# Altium schematic symbol library con-pulse.SCHLIB: 11 symbols
Pins are listed as number, name and electrical type; pins without a type are passive.

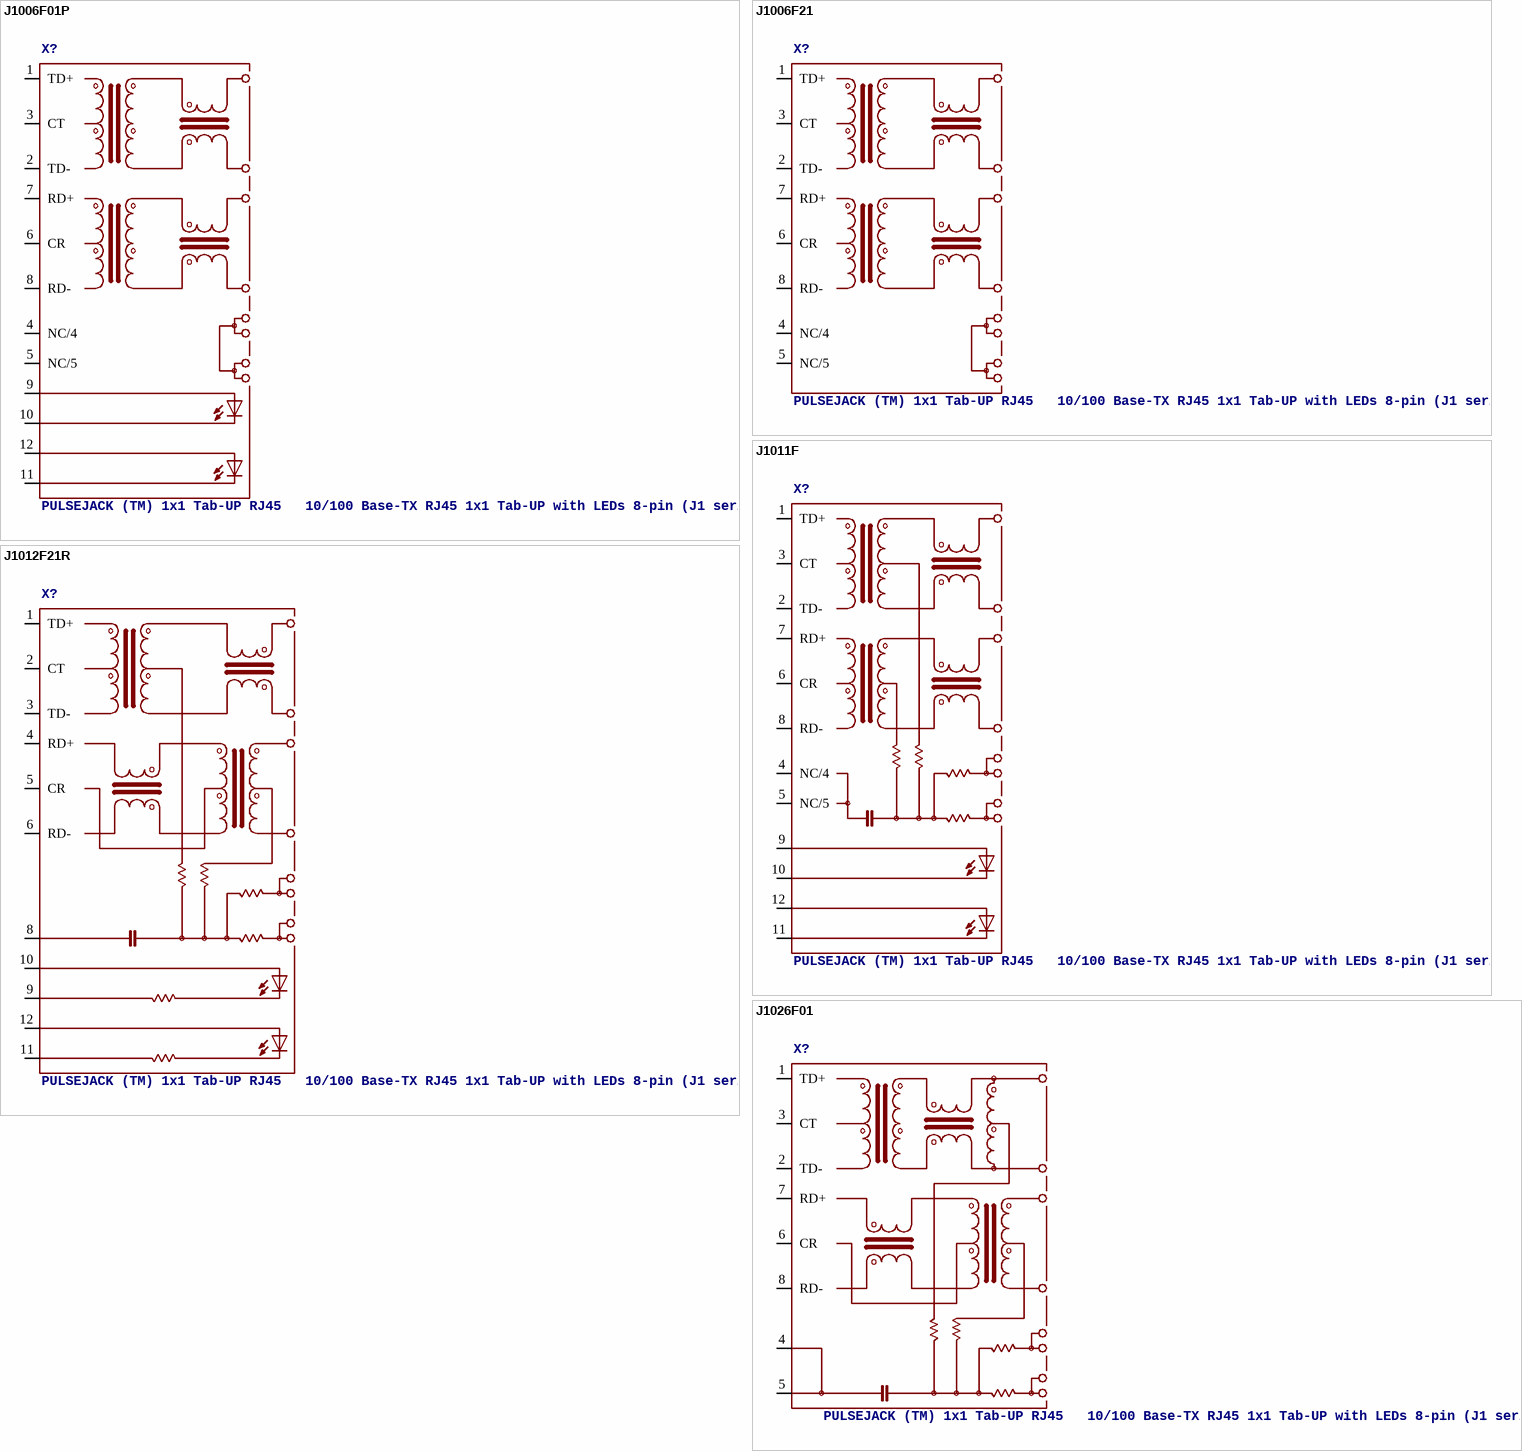
[diagram p0: symbols J1006F01P to J1026F01]

## J1006F01P
designator X?, comment PULSEJACK (TM) 1x1 Tab-UP RJ45   10/100 Base-TX RJ45 1x1 Tab-UP with LEDs 8-pin (J1 series) and 6-pin (JP series) integrated magnetics connector, designed to support applications, such as ADSL modems, LAN-on-Motherboard, and Hub and Switches. Source: www.pulseeng.com .. PulseJack-J402.pdf
OC_FARNELL: unknown; OC_NEWARK: unknown
footprint J1
pins: 1 TD+, 2 TD-, 3 CT, 4 NC/4, 5 NC/5, 6 CR, 7 RD+, 8 RD-, 9 A-R, 10 C-R, 11 C-L, 12 A-L

## J1006F21
designator X?, comment PULSEJACK (TM) 1x1 Tab-UP RJ45   10/100 Base-TX RJ45 1x1 Tab-UP with LEDs 8-pin (J1 series) and 6-pin (JP series) integrated magnetics connector, designed to support applications, such as ADSL modems, LAN-on-Motherboard, and Hub and Switches. Source: www.pulseeng.com .. PulseJack-J402.pdf
OC_FARNELL: unknown; OC_NEWARK: unknown
footprint J1
pins: 1 TD+, 2 TD-, 3 CT, 4 NC/4, 5 NC/5, 6 CR, 7 RD+, 8 RD-

## J1011F
designator X?, comment PULSEJACK (TM) 1x1 Tab-UP RJ45   10/100 Base-TX RJ45 1x1 Tab-UP with LEDs 8-pin (J1 series) and 6-pin (JP series) integrated magnetics connector, designed to support applications, such as ADSL modems, LAN-on-Motherboard, and Hub and Switches. Source: www.pulseeng.com .. PulseJack-J402.pdf
OC_FARNELL: unknown; OC_NEWARK: unknown
footprint J1
pins: 1 TD+, 2 TD-, 3 CT, 4 NC/4, 5 NC/5, 6 CR, 7 RD+, 8 RD-, 9 A-R, 10 C-R, 11 C-L, 12 AL

## J1012F21R
designator X?, comment PULSEJACK (TM) 1x1 Tab-UP RJ45   10/100 Base-TX RJ45 1x1 Tab-UP with LEDs 8-pin (J1 series) and 6-pin (JP series) integrated magnetics connector, designed to support applications, such as ADSL modems, LAN-on-Motherboard, and Hub and Switches. Source: www.pulseeng.com .. PulseJack-J402.pdf
OC_FARNELL: unknown; OC_NEWARK: unknown
footprint J1
pins: 1 TD+, 2 CT, 3 TD-, 4 RD+, 5 CR, 6 RD-, 8, 9 C-R, 10 A-R, 11 C-L, 12 A-L

## J1026F01
designator X?, comment PULSEJACK (TM) 1x1 Tab-UP RJ45   10/100 Base-TX RJ45 1x1 Tab-UP with LEDs 8-pin (J1 series) and 6-pin (JP series) integrated magnetics connector, designed to support applications, such as ADSL modems, LAN-on-Motherboard, and Hub and Switches. Source: www.pulseeng.com .. PulseJack-J402.pdf
OC_FARNELL: unknown; OC_NEWARK: unknown
footprint J1
pins: 1 TD+, 2 TD-, 3 CT, 4, 5, 6 CR, 7 RD+, 8 RD-

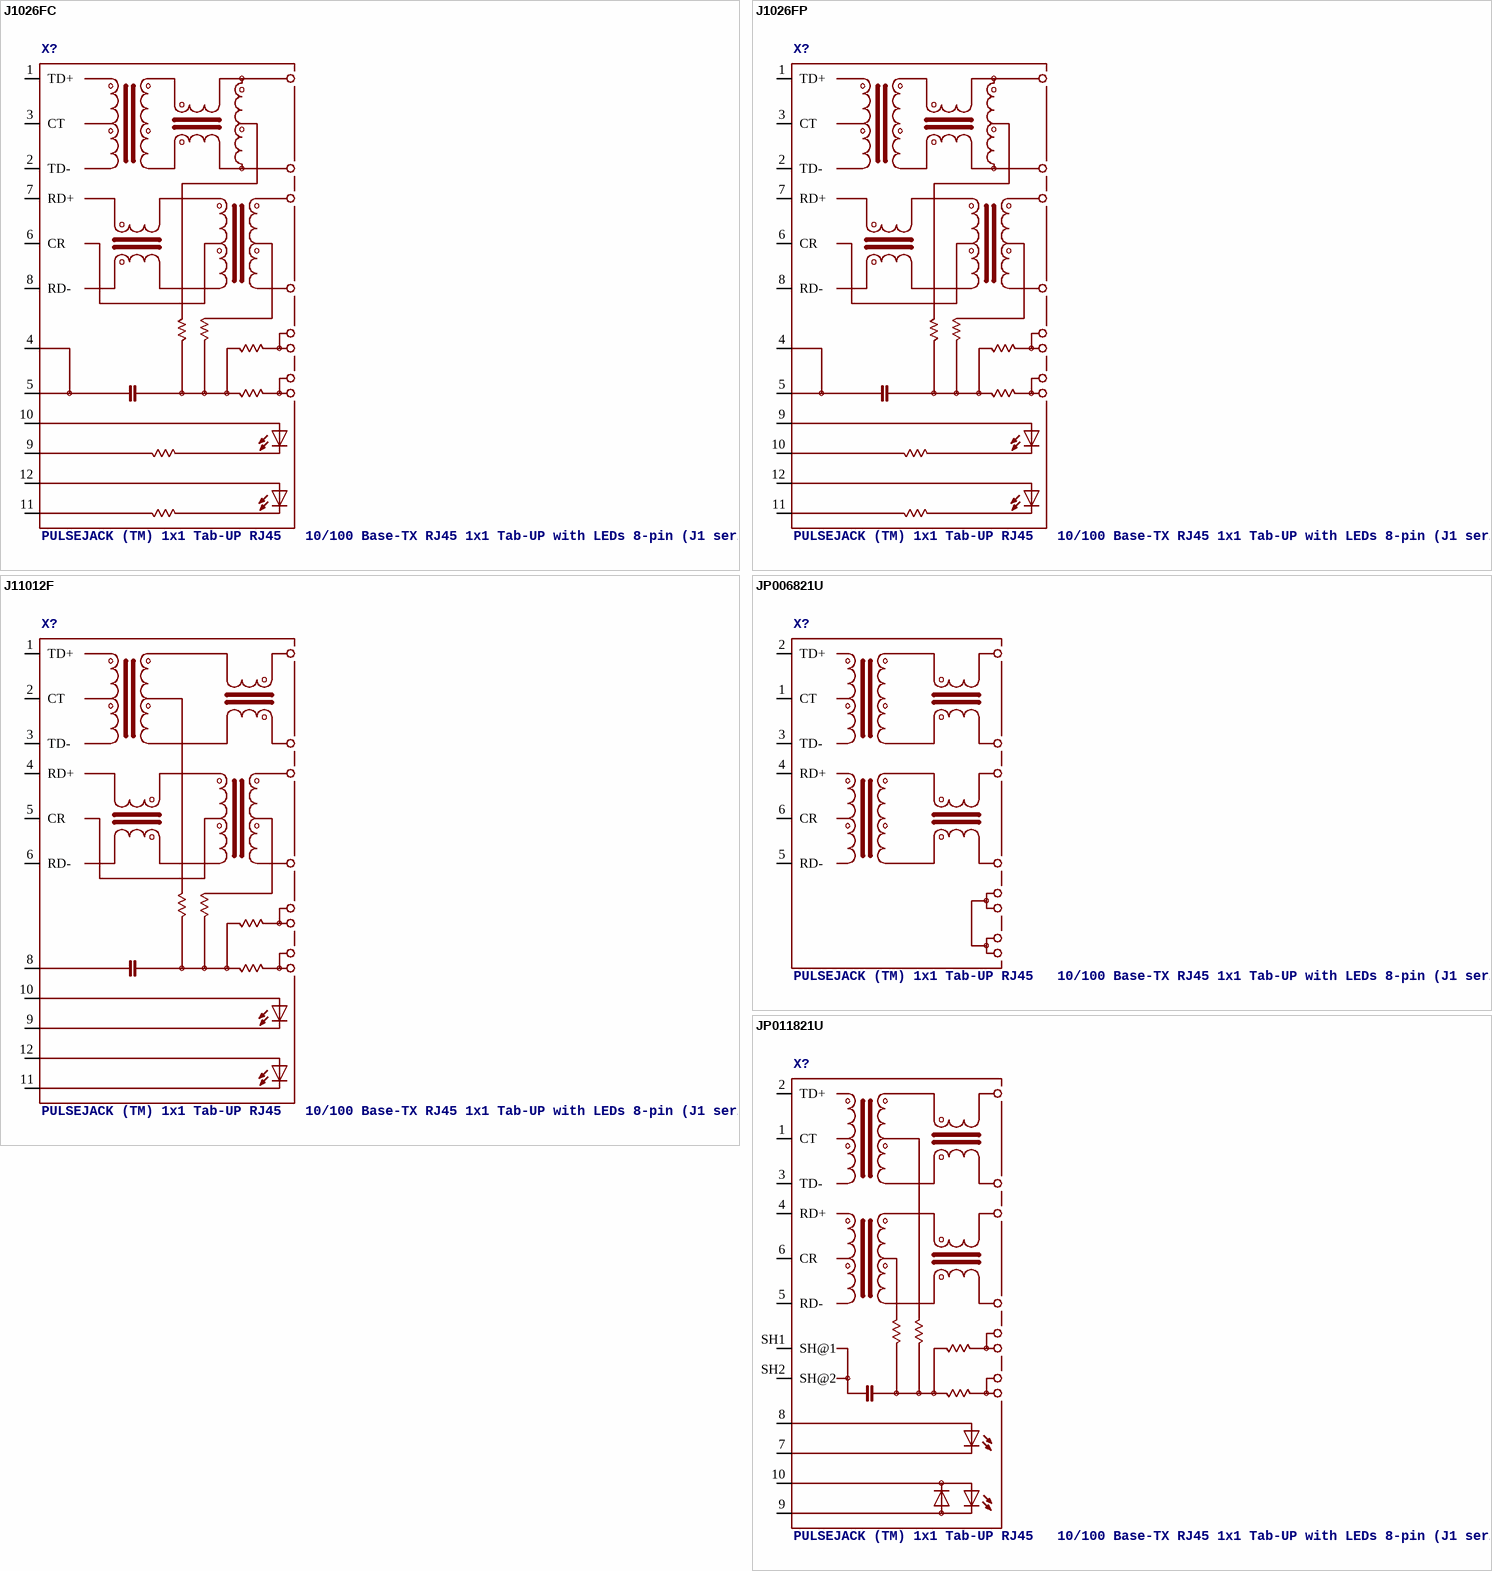
[diagram p1: symbols J1026FC to JP011821U]

## J1026FC
designator X?, comment PULSEJACK (TM) 1x1 Tab-UP RJ45   10/100 Base-TX RJ45 1x1 Tab-UP with LEDs 8-pin (J1 series) and 6-pin (JP series) integrated magnetics connector, designed to support applications, such as ADSL modems, LAN-on-Motherboard, and Hub and Switches. Source: www.pulseeng.com .. PulseJack-J402.pdf
OC_FARNELL: unknown; OC_NEWARK: unknown
footprint J1
pins: 1 TD+, 2 TD-, 3 CT, 4, 5, 6 CR, 7 RD+, 8 RD-, 9 C-R, 10 A-R, 11 C-L, 12 A-L

## J1026FP
designator X?, comment PULSEJACK (TM) 1x1 Tab-UP RJ45   10/100 Base-TX RJ45 1x1 Tab-UP with LEDs 8-pin (J1 series) and 6-pin (JP series) integrated magnetics connector, designed to support applications, such as ADSL modems, LAN-on-Motherboard, and Hub and Switches. Source: www.pulseeng.com .. PulseJack-J402.pdf
OC_FARNELL: unknown; OC_NEWARK: unknown
footprint J1
pins: 1 TD+, 2 TD-, 3 CT, 4, 5, 6 CR, 7 RD+, 8 RD-, 9 A-R, 10 C-R, 11 C-L, 12 A-L

## J11012F
designator X?, comment PULSEJACK (TM) 1x1 Tab-UP RJ45   10/100 Base-TX RJ45 1x1 Tab-UP with LEDs 8-pin (J1 series) and 6-pin (JP series) integrated magnetics connector, designed to support applications, such as ADSL modems, LAN-on-Motherboard, and Hub and Switches. Source: www.pulseeng.com .. PulseJack-J402.pdf
OC_FARNELL: unknown; OC_NEWARK: unknown
footprint J1
pins: 1 TD+, 2 CT, 3 TD-, 4 RD+, 5 CR, 6 RD-, 8, 9 C-R, 10 A-R, 11 C-L, 12 A-L

## JP006821U
designator X?, comment PULSEJACK (TM) 1x1 Tab-UP RJ45   10/100 Base-TX RJ45 1x1 Tab-UP with LEDs 8-pin (J1 series) and 6-pin (JP series) integrated magnetics connector, designed to support applications, such as ADSL modems, LAN-on-Motherboard, and Hub and Switches. Source: www.pulseeng.com .. PulseJack-J402.pdf
OC_FARNELL: unknown; OC_NEWARK: unknown
footprint JP
pins: 1 CT, 2 TD+, 3 TD-, 4 RD+, 5 RD-, 6 CR

## JP011821U
designator X?, comment PULSEJACK (TM) 1x1 Tab-UP RJ45   10/100 Base-TX RJ45 1x1 Tab-UP with LEDs 8-pin (J1 series) and 6-pin (JP series) integrated magnetics connector, designed to support applications, such as ADSL modems, LAN-on-Motherboard, and Hub and Switches. Source: www.pulseeng.com .. PulseJack-J402.pdf
OC_FARNELL: unknown; OC_NEWARK: unknown
footprint JP
pins: 1 CT, 2 TD+, 3 TD-, 4 RD+, 5 RD-, 6 CR, 7 C-Y, 8 A-Y, 9 A-O_C-G, 10 C-O_A-G, SH1 SH@1, SH2 SH@2

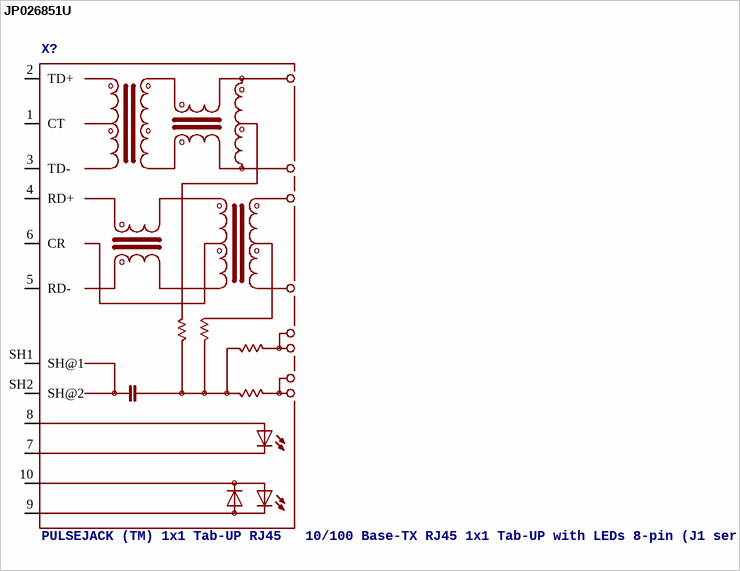
[diagram p2: symbol JP026851U]

## JP026851U
designator X?, comment PULSEJACK (TM) 1x1 Tab-UP RJ45   10/100 Base-TX RJ45 1x1 Tab-UP with LEDs 8-pin (J1 series) and 6-pin (JP series) integrated magnetics connector, designed to support applications, such as ADSL modems, LAN-on-Motherboard, and Hub and Switches. Source: www.pulseeng.com .. PulseJack-J402.pdf
OC_FARNELL: unknown; OC_NEWARK: unknown
footprint JP
pins: 1 CT, 2 TD+, 3 TD-, 4 RD+, 5 RD-, 6 CR, 7 CY, 8 AY, 9 COG, 10 AOG, SH1 SH@1, SH2 SH@2